# Altium schematic symbol library Components.SchLib: 24 symbols (part 2 of 2)
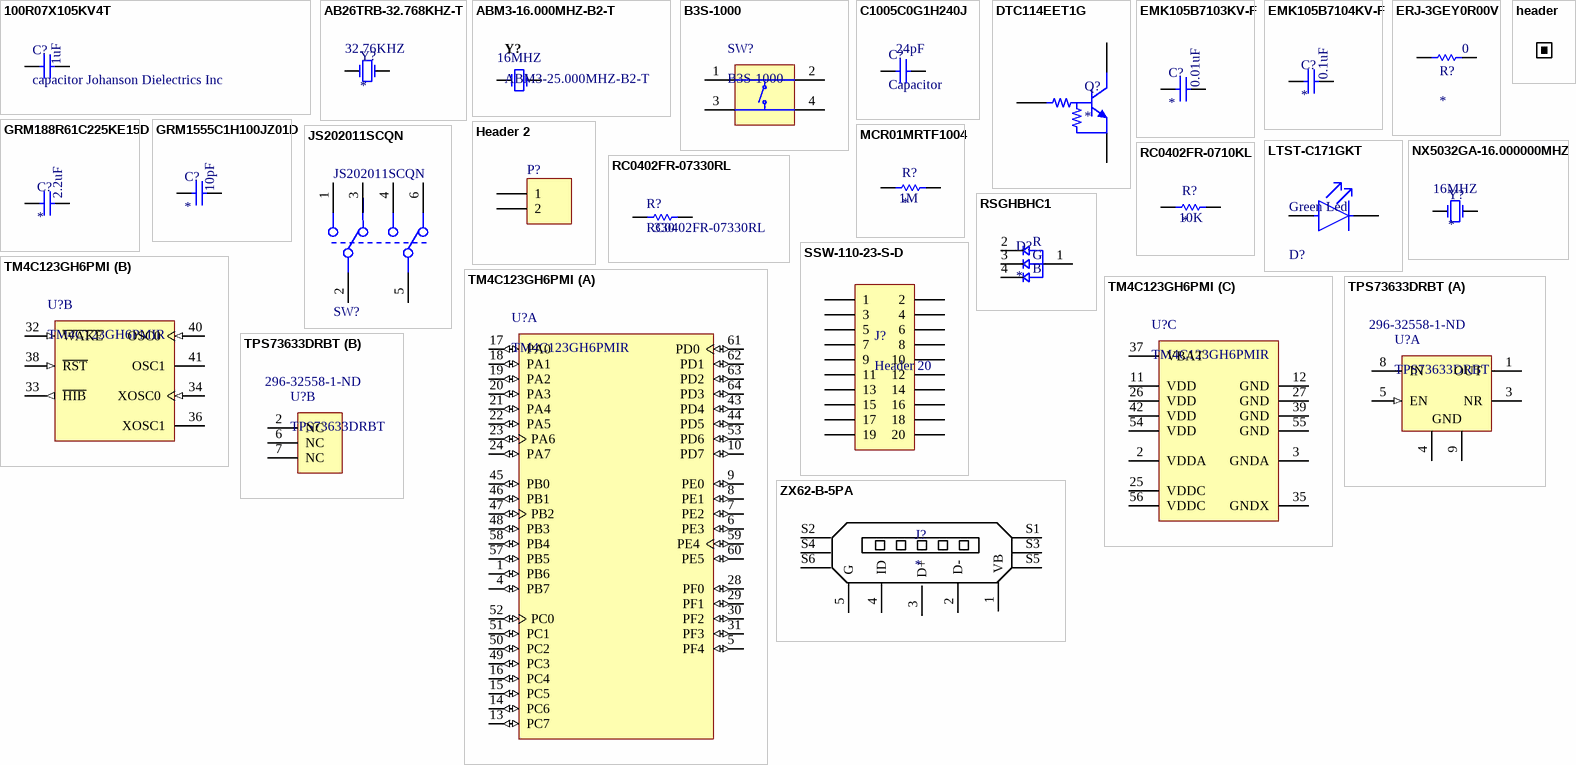
[diagram p1: symbols 100R07X105KV4T to ZX62-B-5PA]

## TPS73633DRBT
designator U?  Supplier Part Number 1: 296-32558-1-ND
Single Output Low Noise LDO, 400 mA, Fixed 3.3 V Output, 1.7 to 5.5 V Input, with Reverse Current Protection, 8-pin SON (DRB), -40 to 85 degC, Green (RoHS & no Sb/Br); Manufacturer: Texas Instruments; Accuracy(%): 1; SubFamily: Single Channel LDO; Vout Adj(Min)(V): 3.3; Vin(Max)(V): 5.5; Rating: Catalog; Iout(Max)(A): 0.4; Iq(Typ)(mA): 0.3; Vdo(Typ)(mV): 75; Vin(Min)(V): 1.7; Dropout Voltage: 75mV; Output Voltage: 3.3V; Output Current: 400mA; Max Power Dissipation: 2.5W; Max Input Voltage: 5.5V; Min Input Voltage: 1.7V; Input Bias Current: 300uA; Polarity: Positive; Accuracy: 1%; Output Voltage Accuracy: 0.5%; PackageVersion: 4203482-2/K; ComponentLink3Description: Package Specification; ComponentLink4URL: Samples URL:http://www.ti.com/product/tps73633#samples; Mounting Technology: Surface Mount; ComponentLink3URL: http://www.ti.com/litv/pdf/mpds118h; PackageDescription: 8-Pin Plastic Small Outline, Body 3 x 3 mm, Pitch 0.65 mm; PackageReference: DRB0008A; Eco-Plan: Green (RoHS & no Sb/Br); PartNumber: TPS73633DRBT; ComponentLink2URL: http://www.ti.com/general/docs/lit/getliterature.tsp?genericPartNumber=TPS73633&fileType=pdf; Vout Adj(Max)(V): 3.3; ComponentLink1URL: http://www.ti.com/; ComponentLink4Description: URL Link1; Fixed Output Options(V): 3.3; DatasheetVersion: SBVS038T; ComponentLink1Description: Manufacturer URL; ComponentLink2Description: Datasheet; Supplier 1: Digi-Key; Manufacturer Part Number: TPS73633DRBT; Stock 1: 304; Pricing 1: 1 = 2.53000, 10 = 2.27500, 25 = 2.14640, 100 = 1.82880 (USD); RoHS: Yes; Case/Package: VSON; Number of Pins: 8; Min Operating Temperature: -40°C; Max Operating Temperature: 125°C; Package Quantity: 250; Packaging: Tape and Reel; Number of Outputs: 1; Max Output Current: 400mA; Number of Regulators: 1; Min Current Limit: 400mA; Power Dissipation: 2.5W; Quiescent Current: 300uA; Max Output Voltage: 3.3V; Min Output Voltage: 3.3V; Output Type: Fixed; Series: -; Radiation Hardening: No; Lead Free: Lead Free; RoHS Compliant: Yes; ComponentLink5URL: https://datasheet.ciiva.com/15111/getdatasheetpartid-48105-15111075.pdf?src-supplier=Verical; ComponentLink5Description: https://datasheet.ciiva.com/15111/getdatasheetpartid-48105-15111075.pdf?src-supplier=Verical
footprint DRB0008A_V (SON, 8-Leads, Body 3x3mm, Pitch 0.65mm, Thermal Pad 1.50 x 3.8mm)
part A pins: 1 OUT (power) "Output of the regulator. There are no output capacitor requirements for stability.", 3 NR "Fixed voltage versions only-connecting an external capacitor to this pin bypasses noise generated by the internal bandgap, reducing output noise to very low levels.", 4 GND (power) "Ground", 5 EN (in) "Driving the enable pin (EN) high turns on the regulator. Driving this pin low puts the  regulator into shutdown mode. Refer to the Shutdown section under Applications Information for more details. EN can be connected to IN (See Datasheet)", 8 IN (power) "Input supply", 9 GND (power) "Ground"
part B pins: 2 NC "No  connection", 6 NC "No  connection", 7 NC "No  connection"

## ZX62-B-5PA
designator J?
USB Connectors MICRO B RECEPT RA SMT BTTM MNT; Manufacturer: Hirose; Manufacturer Part Number: ZX62-B-5PA(11); Number of Terminals/Pins: 5; Connector Type: USB,Receptacle; Gender: Receptacle; Current Rating: 1A; Mating Cycles: 10000; Voltage Rating: 30V; Number of Ports: 1; USB Standard: USB 2.0; Pitch: 0.65mm; Supplier 1: Farnell; Stock 1: 0; Pricing 1: 10 = 0.60800, 50 = 0.48000, 100 = 0.44900, 250 = 0.43000, 500 = 0.39100, 1000 = 0.35900 (GBP); RoHS: Yes; Mount: Surface Mount,Horizontal; Contact Plating: Gold; Contact Material: Copper Alloy; Min Operating Temperature: -30°C; Max Operating Temperature: 85°C; Packaging: Tape and Reel; Number of Contacts: 5; Package Quantity: 3500; Series: ZX62; Termination: Solder; Orientation: Right Angle; Number of Positions: 5; Max Voltage Rating (AC): 30V; Voltage Rating (AC): 30V; Length: 7.9mm; Depth: 5.6mm; Radiation Hardening: No; RoHS Compliant: Yes; REACH SVHC: No SVHC; Lead Free: Lead Free; Flammability Rating: UL94 V-0; ComponentLink1URL: https://datasheet.ciiva.com/11731/0900766b80d9c4df-11731324.pdf?src-supplier=RSComponents; ComponentLink1Description: https://datasheet.ciiva.com/11731/0900766b80d9c4df-11731324.pdf?src-supplier=RSComponents; ComponentLink2URL: https://datasheet.ciiva.com/15181/getdatasheetpartid-449685-15181366.pdf?src-supplier=Verical; ComponentLink2Description: https://datasheet.ciiva.com/15181/getdatasheetpartid-449685-15181366.pdf?src-supplier=Verical; ComponentLink3URL: https://datasheet.ciiva.com/7646/81390-7646778.pdf?src-supplier=Element14; ComponentLink3Description: https://datasheet.ciiva.com/7646/81390-7646778.pdf?src-supplier=Element14; Supplier 2: Mouser; Stock 2: 45031; Pricing 2: 1 = 0.61000, 10 = 0.57200, 50 = 0.57200, 100 = 0.46800, 1000 = 0.37700, 10000 = 0.33800 (USD); ComponentLink4URL: http://www.farnell.com/datasheets/2691174.pdf?src-supplier=Farnell; ComponentLink4Description: http://www.farnell.com/datasheets/2691174.pdf?src-supplier=Farnell; ComponentLink5URL: https://www.hirose.com/product/en/download_file/key_name/ZX62-B-5PA%2833%29/category/Specification%20Sheet/doc_file_id/87473/?file_category_id=9&item_id=02420033833&is_series=&src-supplier=Digi-Key; ComponentLink5Description: https://www.hirose.com/product/en/download_file/key_name/ZX62-B-5PA%2833%29/category/Specification%20Sheet/doc_file_id/87473/?file_category_id=9&item_id=02420033833&is_series=&src-supplier=Digi-Key; ComponentLink6URL: http://www.farnell.com/datasheets/2691174.pdf?src-supplier=Newark; ComponentLink6Description: http://www.farnell.com/datasheets/2691174.pdf?src-supplier=Newark; ComponentLink7URL: http://www.farnell.com/datasheets/2691174.pdf?src-supplier=Element14; ComponentLink7Description: http://www.farnell.com/datasheets/2691174.pdf?src-supplier=Element14; ComponentLink8URL: http://www.farnell.com/datasheets/2060515.pdf?src-supplier=Element14; ComponentLink8Description: http://www.farnell.com/datasheets/2060515.pdf?src-supplier=Element14; Supplier Part Number 1: 1645325; Supplier Part Number 2: 798-ZX62-B-5PA33
footprint ZX62B5PA
pins: 1 VB, 2 D-, 3 D+, 4 ID, 5 G, S1, S2, S3, S4, S5, S6